# Altium footprint library ADI_C64_4.PcbLib: 1 footprints
Each footprint in its own frame and in the unit in brackets; x right, y up, seen from the top. Pads: shape width x height; smd on the part's side, far side on the other; paste and mask are expansions set on the pad; w line width, h text height; cw(c..) or ccw(c..) is an arc to the next point about the centre after c.
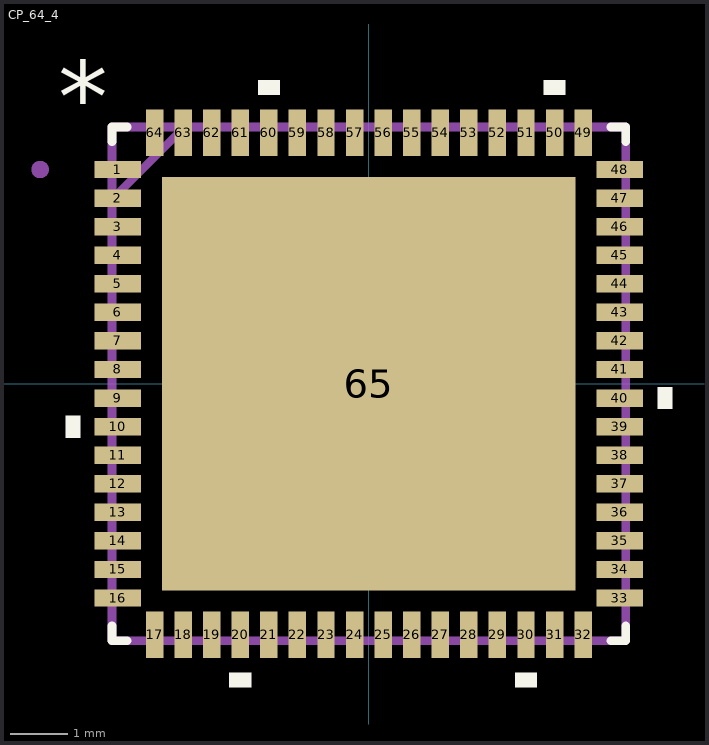
[diagram p0: the footprint, top view; thin cyan lines are the x and y axes]

## CP_64_4 [mil]
height 39
pads (65):
  rect 32x12 smd mask+5: 1(-173,147.64) 2(-173,127.95) 3(-173,108.27) 4(-173,88.58) 5(-173,68.9) 6(-173,49.21) 7(-173,29.53) 8(-173,9.84) 9(-173,-9.84) 10(-173,-29.53) 11(-173,-49.21) 12(-173,-68.9) 13(-173,-88.58) 14(-173,-108.27) 15(-173,-127.95) 16(-173,-147.64) 33(173,-147.64) 34(173,-127.95) 35(173,-108.27) 36(173,-88.58) 37(173,-68.9) 38(173,-49.21) 39(173,-29.53) 40(173,-9.84) 41(173,9.84) 42(173,29.53) 43(173,49.21) 44(173,68.9) 45(173,88.58) 46(173,108.27) 47(173,127.95) 48(173,147.64)
  rect 12x32 smd mask+5: 17(-147.64,-173) 18(-127.95,-173) 19(-108.27,-173) 20(-88.58,-173) 21(-68.9,-173) 22(-49.21,-173) 23(-29.53,-173) 24(-9.84,-173) 25(9.84,-173) 26(29.53,-173) 27(49.21,-173) 28(68.9,-173) 29(88.58,-173) 30(108.27,-173) 31(127.95,-173) 32(147.64,-173) 49(147.64,173) 50(127.95,173) 51(108.27,173) 52(88.58,173) 53(68.9,173) 54(49.21,173) 55(29.53,173) 56(9.84,173) 57(-9.84,173) 58(-29.53,173) 59(-49.21,173) 60(-68.9,173) 61(-88.58,173) 62(-108.27,173) 63(-127.95,173) 64(-147.64,173)
  rect 285x285 smd mask-142: 65(0,0)
Top Overlay:
  region: -199,-22.03 -209,-22.03 -209,-37.03 -199,-37.03
  region: -81.08,-199 -96.08,-199 -96.08,-209 -81.08,-209
  region: 115.77,-199 100.77,-199 100.77,-209 115.77,-209
  region: 199,-2.34 209,-2.34 209,-17.34 199,-17.34
  region: 135.45,199 120.45,199 120.45,209 135.45,209
  region: -61.4,199 -76.4,199 -76.4,209 -61.4,209
  lines w6: -177,-166.74 -177,-177 -166.74,-177 ; -177,166.74 -177,177 -166.74,177 ; 166.74,-177 177,-177 177,-166.74 ; 166.74,177 177,177 177,166.74
  text "*" at -214,172.48 h50
Mechanical 1:
  drawing of 271 lines, arcs and shapes, not listed
  text "39" at 0,0 h50
  text "*" at -214,172.48 h50